# Altium footprint library LNA_1.7GHz.PcbLib: 27 footprints (part 2 of 2)
Each footprint in its own frame and in the unit in brackets; x right, y up, seen from the top. Pads: shape width x height; smd on the part's side, far side on the other; paste and mask are expansions set on the pad; w line width, h text height; cw(c..) or ccw(c..) is an arc to the next point about the centre after c.
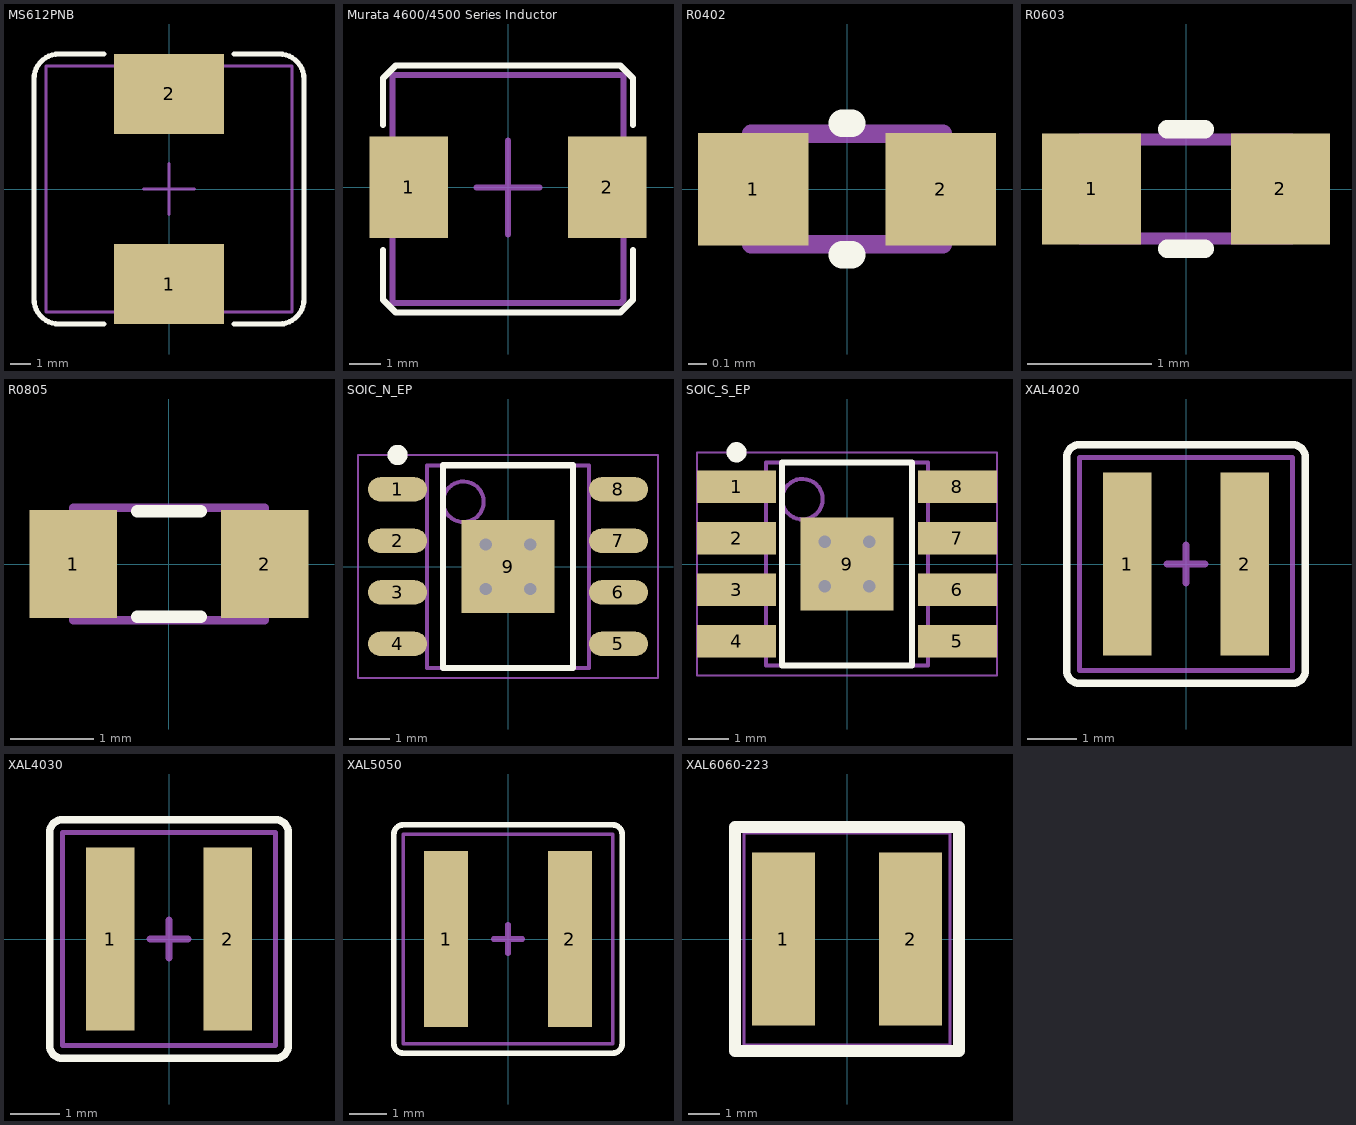
[diagram p1: the footprints below, top view; thin cyan lines are the x and y axes]

## MS612PNB [mm]
height 8
pads (2):
  rect 5.5x4 smd: 1(0,-4.75) 2(0,4.75)
Top Overlay:
  lines w0.254: -3.25,-6.75 -5.5,-6.75 cw(c-5.5,-5.5) -6.75,-5.5 -6.75,5.5 cw(c-5.5,5.5) -5.5,6.75 -3.25,6.75 ; 3.25,-6.75 5.75,-6.75 ; 3.25,6.75 5.5,6.75 cw(c5.5,5.5) 6.75,5.5 6.75,-5.5 cw(c5.5,-5.5) 5.5,-6.75
Mechanical 1:
  lines w0.15: -1.27,0 1.27,0 ; 0,-1.27 0,1.27 ; -6.15,-6.15 -6.15,6.15 6.15,6.15 6.15,-6.15 -6.15,-6.15
3D body "Coilcraft-MS612PNB.step": height 8.22, standoff -0.04, extent -6.15,-6.15 6.15,6.15

## Murata 4600/4500 Series Inductor [mm]
height 4
pads (2):
  rect 2.5x3.25 smd: 1(-3.175,0) 2(3.175,0)
Top Overlay:
  lines w0.2: -4,-2 -4,-3.6 -3.6,-4 3.6,-4 4,-3.6 4,-2 ; -4,2 -4,3.5 -3.6,3.9 3.6,3.9 4,3.5 4,2
Mechanical 1:
  lines w0.2: -1,0 1,0 ; 0,-1.5 0,1.5 ; 3.6,3.6 -3.7,3.6 -3.7,-3.7 3.6,-3.7 3.7,-3.6 3.7,3.6
3D body "User Library-Murata_4600.step": height 4.55, standoff 0, extent -3.714,-3.7 3.714,3.6

## R0402 [mil]
height 12.6
pads (2):
  rect 23.62x24 smd: 1(-20,0) 2(20,0)
Top Overlay:
  lines w5.91: -1,-14 1,-14 ; -1,14 1,14
Mechanical 1:
  lines w3.94: -20.47,-11.8 -20.47,11.82 20.48,11.82 20.48,-11.8 -20.47,-11.8
3D body "User Library-0402R.step": height 13.39, standoff 0, extent -20.47,-11.8 20.48,11.82

## R0603 [mm]
height 1.3
pads (2):
  rect 0.8x0.9 smd: 1(-0.762,0) 2(0.762,0)
Top Overlay:
  lines w0.15: -0.152,-0.483 0.152,-0.483 ; -0.152,0.483 0.152,0.483
Mechanical 1:
  lines w0.1: -0.85,-0.4 0.85,-0.4 0.85,0.4 -0.85,0.4 -0.85,-0.4
3D body "User Library-RES-0603.step": height 0.56, standoff 0, extent -0.85,-0.4 0.85,0.4

## R0805 [mm]
height 0.5
pads (2):
  rect 1.05x1.3 smd: 1(-1.15,0) 2(1.15,0)
Top Overlay:
  lines w0.15: -0.381,-0.635 0.381,-0.635 ; -0.381,0.635 0.381,0.635
Mechanical 1:
  lines w0.1: -1.15,-0.675 -1.15,0.675 1.15,0.675 1.15,-0.675 -1.15,-0.675
3D body "User Library-RES-0805.step": height 0.76, standoff 0, extent -1.15,-0.675 1.15,0.675

## SOIC_N_EP [mm] "SOIC, 8-Leads, Body 4,90x3,90mm, Pitch 1,27mm, Thermal Pad 2,29x2,29mm, IPC Medium Density"
height 1.75
pads (9):
  oval 1.45x0.6 smd: 1(-2.725,1.905) 2(-2.725,0.635) 3(-2.725,-0.635) 4(-2.725,-1.905) 5(2.725,-1.905) 6(2.725,-0.635) 7(2.725,0.635) 8(2.725,1.905)
  rect 2.29x2.29 all layers, no hole: 9(0,0)
via -0.55,0.55 diameter 0.6 hole 0.3
via 0.55,0.55 diameter 0.6 hole 0.3
via 0.55,-0.55 diameter 0.6 hole 0.3
via -0.55,-0.55 diameter 0.6 hole 0.3
Top Overlay:
  circle w0.25: c-2.725,2.755 r0.125
  lines w0.15: -1.6,-2.5 1.6,-2.5 1.6,2.5 -1.6,2.5 -1.6,-2.5
Mechanical 1:
  circle w0.1: c-1.1,1.6 r0.5
  lines w0.05: -3.7,-2.75 3.7,-2.75 3.7,2.75 -3.7,2.75 -3.7,-2.75
  lines w0.1: -0.5,0 0.5,0 ; 0,-0.5 0,0.5 ; -2,-2.5 2,-2.5 2,2.5 -2,2.5 -2,-2.5
3D body "User Library-SOIC8_4_9x3_9_1_53_p1_27.step": height 1.65, standoff -0.01, extent -3,-2.45 3,2.45

## SOIC_S_EP [mm] "SOIC, 8-Leads, Body 4,90x3,90mm, Pitch 1,27mm, Thermal Pad 2,29x2,29mm, IPC Medium Density"
height 1.75
pads (9):
  rect 1.95x0.8 smd: 1(-2.725,1.905) 2(-2.725,0.635) 3(-2.725,-0.635) 4(-2.725,-1.905) 5(2.725,-1.905) 6(2.725,-0.635) 7(2.725,0.635) 8(2.725,1.905)
  rect 2.29x2.29 all layers, no hole: 9(0,0)
via -0.55,-0.55 diameter 0.6 hole 0.3
via 0.55,-0.55 diameter 0.6 hole 0.3
via 0.55,0.55 diameter 0.6 hole 0.3
via -0.55,0.55 diameter 0.6 hole 0.3
Top Overlay:
  circle w0.25: c-2.725,2.755 r0.125
  lines w0.15: -1.6,-2.5 -1.6,2.5 1.6,2.5 1.6,-2.5 -1.6,-2.5
Mechanical 1:
  circle w0.1: c-1.1,1.6 r0.5
  lines w0.05: -3.7,-2.75 -3.7,2.75 3.7,2.75 3.7,-2.75 -3.7,-2.75
  lines w0.1: -0.5,0 0.5,0 ; 0,-0.5 0,0.5 ; -2,-2.5 -2,2.5 2,2.5 2,-2.5 -2,-2.5
3D body "User Library-SOIC8_4_9x3_9_1_53_p1_27.step": height 1.65, standoff -0.01, extent -3,-2.45 3,2.45

## XAL4020 [mm]
height 10
pads (2):
  rect 0.98x3.7 smd: 1(-1.185,0) 2(1.185,0)
Top Overlay:
  lines w0.15: -2.413,-2.159 ccw(c-2.159,-2.159) -2.159,-2.413 2.159,-2.413 ccw(c2.159,-2.159) 2.413,-2.159 2.413,2.159 ccw(c2.159,2.159) 2.159,2.413 -2.159,2.413 ccw(c-2.159,2.159) -2.413,2.159 -2.413,-2.159
Mechanical 1:
  lines w0.1: -2.159,-2.159 2.159,-2.159 2.159,2.159 -2.159,2.159 -2.159,-2.159
  lines w0.15: -0.381,0 0.381,0 ; 0,-0.381 0,0.381
3D body "Coilcraft-XAL4020.step": height 2.13, standoff -0.1, extent -2.15,-2.15 2.15,2.15

## XAL4030 [mm]
height 10
pads (2):
  rect 0.98x3.7 smd: 1(-1.185,0) 2(1.185,0)
Top Overlay:
  lines w0.15: -2.413,-2.159 ccw(c-2.159,-2.159) -2.159,-2.413 2.159,-2.413 ccw(c2.159,-2.159) 2.413,-2.159 2.413,2.159 ccw(c2.159,2.159) 2.159,2.413 -2.159,2.413 ccw(c-2.159,2.159) -2.413,2.159 -2.413,-2.159
Mechanical 1:
  lines w0.1: -2.159,-2.159 -2.159,2.159 2.159,2.159 2.159,-2.159 -2.159,-2.159
  lines w0.15: -0.381,0 0.381,0 ; 0,-0.381 0,0.381
3D body "Coilcraft-XAL4030.step": height 3.13, standoff -0.1, extent -2.15,-2.15 2.15,2.15

## XAL5050 [mm]
height 10
pads (2):
  rect 1.18x4.7 smd: 1(-1.655,0) 2(1.655,0)
Top Overlay:
  lines w0.15: -3.048,-2.794 ccw(c-2.794,-2.794) -2.794,-3.048 2.794,-3.048 ccw(c2.794,-2.794) 3.048,-2.794 3.048,2.794 ccw(c2.794,2.794) 2.794,3.048 -2.794,3.048 ccw(c-2.794,2.794) -3.048,2.794 -3.048,-2.794
Mechanical 1:
  lines w0.1: -2.794,-2.794 -2.794,2.794 2.794,2.794 2.794,-2.794 -2.794,-2.794
  lines w0.15: -0.381,0 0.381,0 ; 0,-0.381 0,0.381
3D body "Coilcraft-XAL5050.step": height 5.13, standoff -0.1, extent -2.74,-2.84 2.74,2.84

## XAL6060-223 [mm]
height 10
pads (2):
  rect 2x5.5 smd: 1(-2.02,0) 2(2.02,0)
Top Overlay:
  lines w0.381: -3.556,-3.556 -3.556,3.556 3.556,3.556 3.556,-3.556 -3.556,-3.556
Mechanical 1:
  lines w0.1: -3.28,-3.38 -3.28,3.38 3.28,3.38 3.28,-3.38 -3.28,-3.38
3D body "Coilcraft-XAL6060-223.step": height 6.08, standoff -0.02, extent -3.28,-3.38 3.28,3.38